# Altium schematic symbol library SCH - CRYSTALS - TAITIEN NI-10M-3560.SCHLIB: 1 symbol
Pins are listed as number, name and electrical type; pins without a type are passive.

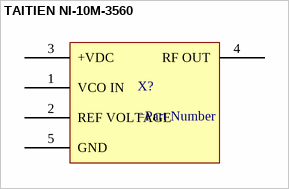
[diagram p0: symbol TAITIEN NI-10M-3560]

## TAITIEN NI-10M-3560
designator X?
pins: 1 VCO IN, 2 REF VOLTAGE, 3 +VDC, 4 RF OUT, 5 GND